# Altium schematic symbol library KAM21BR71H104JT.SchLib: 1 symbol
Pins are listed as number, name and electrical type; pins without a type are passive.

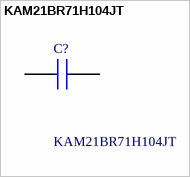
[diagram p0: symbol KAM21BR71H104JT]

## KAM21BR71H104JT
designator C?
Multilayer Ceramic Capacitors MLCC - SMD/SMT 50V .1uF X7R 0805 5% AEC-Q200; Manufacturer_Name: Kyocera AVX; Geometry.Height: 0.94mm; Mouser Part Number: 581-KAM21BR71H104JT; Mouser Price/Stock: https://www.mouser.co.uk/ProductDetail/KYOCERA-AVX/KAM21BR71H104JT?qs=Jm2GQyTW%2Fbic6Zk4McEt6w%3D%3D; Manufacturer_Part_Number: KAM21BR71H104JT; Datasheet Link: https://spicat.kyocera-avx.com/product/mlcc/chartview/KAM21BR71H104JT/DataSheet/X7R
footprint CAPC2012X94N
pins: 1, 2